# Altium schematic symbol library StylishSchematic.SchLib: 5 symbols
Pins are listed as number, name and electrical type; pins without a type are passive.

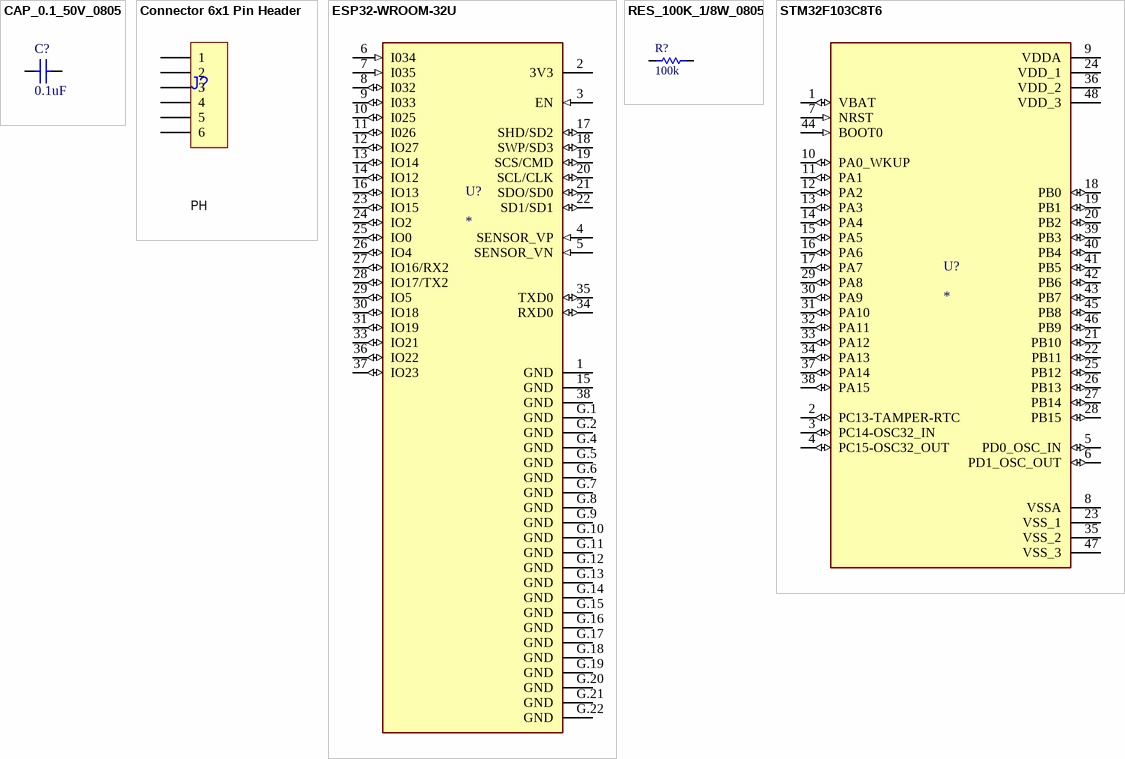
[diagram p0: symbols CAP_0.1_50V_0805 to STM32F103C8T6]

## CAP_0.1_50V_0805
designator C?, comment 0.1uF
Capacitor SMD Ceramic Chip Cap 0.1uF 50V (0805) (AVX); RMPN: RMELCCAPSC001; Value: 0.1uF, 50V Ceramic; Created by: Zion Blue; Published: 28 April 2014; Publisher: Cynetik Group; RM DESC: Capacitor SMD Ceramic Chip Cap 0.1uF 50V (0805) (AVX); MPN: *; Manufacturer: *
footprint CAPC2012X135N (Chip Capacitor, Body 2.0x1.2mm, EIA 0805, IPC Medium Density)
pins: 1, 2

## Connector 6x1 Pin Header
designator J?, comment PH
Connector 6 x 1 PIN Header 2.54 x 2.54 mm; LatestRevisionDate: 17-Jul-2002; LatestRevisionNote: Re-released for DXP Platform.; Publisher: Altium Limited
footprint HDR1X6 (Connector; Header; 6 Position)
signal-integrity model Connector
pins: 1, 2, 3, 4, 5, 6

## ESP32-WROOM-32U
designator U?
Bluetooth, WiFi 802.11b/g/n, Bluetooth v4.2 +EDR, Class 1, 2 and 3 Transceiver Module 2.4GHz ~ 2.5GHz Antenna Not Included, U.FL Surface Mount; MP: ESP32-WROOM-32U; MF: Espressif Systems; Price: None; Package: NON STANDARD-39 Espressif; Check_prices: https://www.snapeda.com/parts/ESP32-WROOM-32U/Espressif+Systems/view-part/?ref=eda; Value: *; Availability: Not in stock; SnapEDA_Link: https://www.snapeda.com/parts/ESP32-WROOM-32U/Espressif+Systems/view-part/?ref=snap
footprint XCVR_ESP32-WROOM-32U
pins: 1 GND (power), 2 3V3 (power), 3 EN (in), 4 SENSOR_VP (in), 5 SENSOR_VN (in), 6 I034 (in), 7 I035 (in), 8 I032 (io), 9 I033 (io), 10 I025 (io), 11 I026 (io), 12 IO27 (io), 13 IO14 (io), 14 IO12 (io), 15 GND (power), 16 IO13 (io), 17 SHD/SD2 (io), 18 SWP/SD3 (io), 19 SCS/CMD (io), 20 SCL/CLK (io), 21 SDO/SD0 (io), 22 SD1/SD1 (io), 23 IO15 (io), 24 IO2 (io), 25 IO0 (io), 26 IO4 (io), 27 IO16/RX2 (io), 28 IO17/TX2 (io), 29 IO5 (io), 30 IO18 (io), 31 IO19 (io), 33 IO21 (io), 34 RXD0 (io), 35 TXD0 (io), 36 IO22 (io), 37 IO23 (io), 38 GND (power), G.1 GND (power), G.2 GND (power), G.4 GND (power), G.5 GND (power), G.6 GND (power), G.7 GND (power), G.8 GND (power), G.9 GND (power), G.10 GND (power), G.11 GND (power), G.12 GND (power), G.13 GND (power), G.14 GND (power), G.15 GND (power), G.16 GND (power), G.17 GND (power), G.18 GND (power), G.19 GND (power), G.20 GND (power), G.21 GND (power), G.22 GND (power)

## RES_100K_1/8W_0805
designator R?, comment 100k
0805 100K OHM Resistor .
footprint 0805 MODIFICADO (Chip Resistor, Empaque 0805)
pins: 1, 2

## STM32F103C8T6
designator U?
ARM® Cortex®-M3 STM32F1 Microcontroller IC 32-Bit 72MHz 64KB (64K x 8) FLASH 48-LQFP (7x7); MF: STMicroelectronics; MP: STM32F103C8T6; Package: LQFP-48 STMicroelectronics; Price: None; Check_prices: https://www.snapeda.com/parts/STM32F103C8T6/STMicroelectronics/view-part/?ref=eda; Value: *; SnapEDA_Link: https://www.snapeda.com/parts/STM32F103C8T6/STMicroelectronics/view-part/?ref=snap; Availability: In Stock; Purchase-URL: https://pricing.snapeda.com/search/part/STM32F103C8T6/?ref=eda
footprint QFP50P900X900X160-48N
pins: 1 VBAT (io), 2 PC13-TAMPER-RTC (io), 3 PC14-OSC32_IN (io), 4 PC15-OSC32_OUT (io), 5 PD0_OSC_IN (io), 6 PD1_OSC_OUT (io), 7 NRST (in), 8 VSSA (power), 9 VDDA (power), 10 PA0_WKUP (io), 11 PA1 (io), 12 PA2 (io), 13 PA3 (io), 14 PA4 (io), 15 PA5 (io), 16 PA6 (io), 17 PA7 (io), 18 PB0 (io), 19 PB1 (io), 20 PB2 (io), 21 PB10 (io), 22 PB11 (io), 23 VSS_1 (power), 24 VDD_1 (power), 25 PB12 (io), 26 PB13 (io), 27 PB14 (io), 28 PB15 (io), 29 PA8 (io), 30 PA9 (io), 31 PA10 (io), 32 PA11 (io), 33 PA12 (io), 34 PA13 (io), 35 VSS_2 (power), 36 VDD_2 (power), 37 PA14 (io), 38 PA15 (io), 39 PB3 (io), 40 PB4 (io), 41 PB5 (io), 42 PB6 (io), 43 PB7 (io), 44 BOOT0 (in), 45 PB8 (io), 46 PB9 (io), 47 VSS_3 (power), 48 VDD_3 (power)